# Altium footprint library PEI_PCB_1.1.PcbLib: 310 footprints (part 7 of 20)
Each footprint in its own frame and in the unit in brackets; x right, y up, seen from the top. Pads: shape width x height; smd on the part's side, far side on the other; paste and mask are expansions set on the pad; w line width, h text height; cw(c..) or ccw(c..) is an arc to the next point about the centre after c.
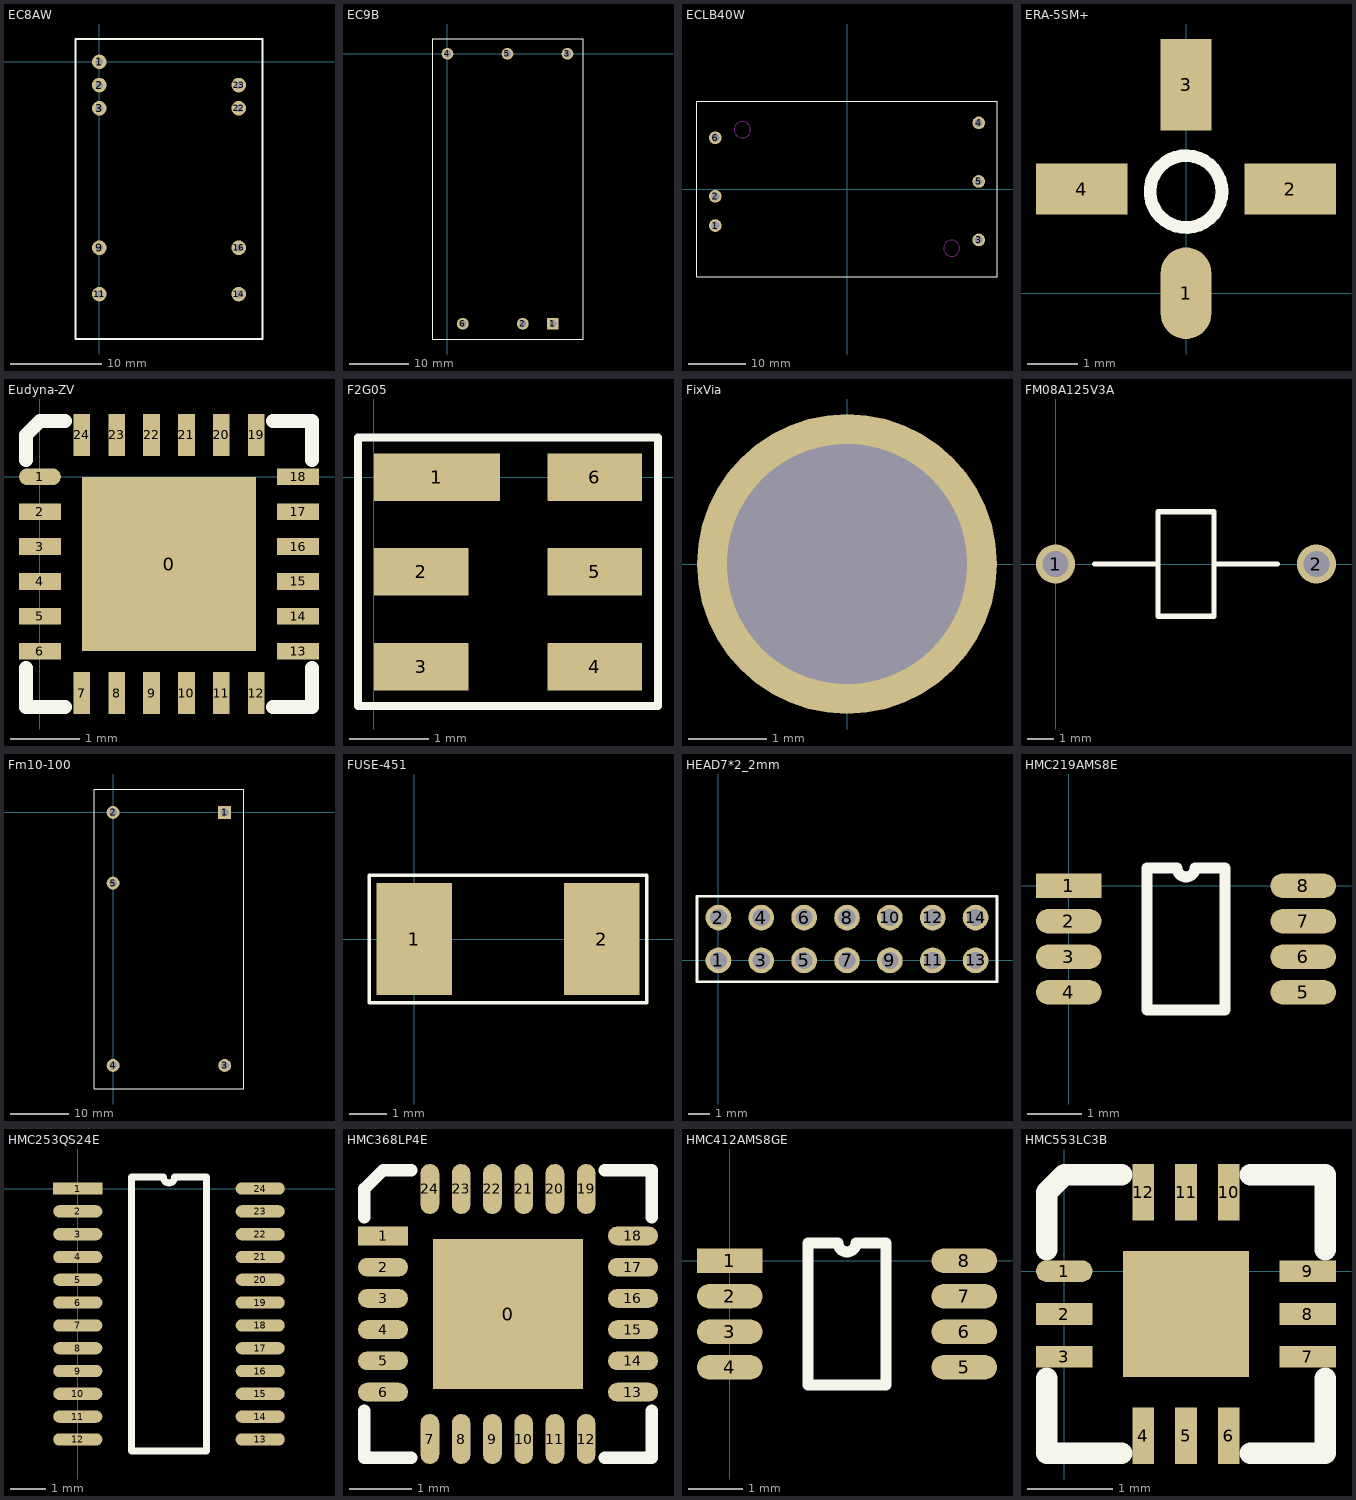
[diagram p6: the footprints below, top view; thin cyan lines are the x and y axes]

## EC8AW [mm]
pads (9):
  round 1.6 hole 0.8: 1(0,0) 2(0,-2.54) 3(0,-5.08) 9(0,-20.32) 11(0,-25.4) 14(15.24,-25.4) 16(15.24,-20.32) 22(15.24,-5.08) 23(15.24,-2.54)
TopOverlay:
  lines w0.2: 17.84,-30.302 17.84,2.5 -2.6,2.5 -2.6,-30.3 17.84,-30.3

## EC9B [mm]
pads (6):
  rect 2x2 hole 1.2: 1(17.84,-45.72)
  round 2 hole 1.2: 2(12.76,-45.72) 3(20.32,0) 4(0,0) 5(10.16,0) 6(2.6,-45.72)
TopOverlay:
  lines w0.2: -2.5,-48.3 23,-48.3 23,2.5 -2.5,2.5 -2.5,-48.3

## ECLB40W [mm]
pads (6):
  round 2.2 hole 1.4: 1(-22.86,-6.35) 2(-22.86,-1.27) 3(22.86,-8.839) 4(22.86,11.481) 5(22.86,1.321) 6(-22.86,8.89)
TopOverlay:
  lines w0.2: -26.035,-15.24 -26.035,15.24 26.035,15.24 26.035,-15.24 -26.035,-15.24
KeepOutLayer:
  circle w0.1: c18.161,-10.287 r1.4
  circle w0.1: c-18.161,10.287 r1.4

## ERA-5SM+ [mil]
pads (4):
  oval 40x72 smd: 1(0,0)
  rect 72x40 smd: 2(82,82) 4(-82,82)
  rect 40x72 smd: 3(0,164)
TopOverlay:
  circle w10: c0,80 r28.28

## Eudyna-ZV [mm]
pads (25):
  rect 2.5x2.5 smd: 0(1.85,-1.25)
  oval 0.6x0.24 smd: 1(0,0)
  rect 0.6x0.24 smd: 2(0,-0.5) 3(0,-1) 4(0,-1.5) 5(0,-2) 6(0,-2.5) 13(3.7,-2.5) 14(3.7,-2) 15(3.7,-1.5) 16(3.7,-1) 17(3.7,-0.5) 18(3.7,0)
  rect 0.24x0.6 smd: 7(0.6,-3.1) 8(1.1,-3.1) 9(1.6,-3.1) 10(2.1,-3.1) 11(2.6,-3.1) 12(3.1,-3.1) 19(3.1,0.6) 20(2.6,0.6) 21(2.1,0.6) 22(1.6,0.6) 23(1.1,0.6) 24(0.6,0.6)
TopOverlay:
  lines w0.2: -0.2,-2.74 -0.2,-3.3 0.36,-3.3 ; -0.2,0.24 -0.2,0.6 0,0.8 0.36,0.8 ; 3.34,-3.3 3.9,-3.3 3.9,-2.74 ; 3.34,0.8 3.9,0.8 3.9,0.24

## F2G05 [mm]
pads (6):
  rect 1.6x0.6 smd: 1(0.8,0)
  rect 1.2x0.6 smd: 2(0.6,-1.2) 3(0.6,-2.4) 4(2.8,-2.4) 5(2.8,-1.2) 6(2.8,0)
TopOverlay:
  lines w0.1: -0.2,-2.9 3.6,-2.9 3.6,0.5 -0.2,0.5 -0.2,-2.9

## FixVia [mil]
pads (1):
  round 150 hole 120: ""(0,0)

## FM08A125V3A [mm]
pads (2):
  round 1.5 hole 1: 1(0,0) 2(10,0)
TopOverlay:
  lines w0.2: 1.5,0 3.925,0 ; 8.5,0 6.075,0 ; 3.925,0 3.925,-2 6.075,-2 6.075,0 ; 3.925,0 3.925,2 6.075,2 6.075,0

## Fm10-100 [mm]
pads (5):
  rect 2.2x2.2 hole 1.4: 1(19.05,0)
  round 2.2 hole 1.4: 2(0,0) 3(19.05,-43.18) 4(0,-43.18) 5(0,-12.06)
TopOverlay:
  lines w0.2: -3.2,-47.2 22.3,-47.2 22.3,4 -3.2,4 -3.2,-47.2

## FUSE-451 [mm]
pads (2):
  rect 2x3 smd: 1(0,0) 2(5,0)
TopOverlay:
  lines w0.1: -1.2,-1.7 6.2,-1.7 6.2,1.7 -1.2,1.7 -1.2,-1.7

## HEAD7*2_2mm [mm]
pads (14):
  round 1.2 hole 0.8: 1(0,0) 2(0,2) 3(2,0) 4(2,2) 5(4,0) 6(4,2) 7(6,0) 8(6,2) 9(8,0) 10(8,2) 11(10,0) 12(10,2) 13(12,0) 14(12,2)
TopOverlay:
  lines w0.127: -1,-1 13,-1 13,3 -1,3 -1,-1

## HMC219AMS8E [mm]
pads (8):
  rect 1.2x0.45 smd: 1(0,0)
  oval 1.2x0.45 smd: 2(0,-0.65) 3(0,-1.3) 4(0,-1.95) 5(4.3,-1.95) 6(4.3,-1.3) 7(4.3,-0.65) 8(4.3,0)
TopOverlay:
  lines w0.2: 1.435,-2.275 1.435,0.325 1.987,0.325 ccw(c2.15,0.325) 2.313,0.325 2.865,0.325 2.865,-2.275 1.435,-2.275

## HMC253QS24E [mm]
pads (24):
  rect 1.4x0.35 smd: 1(0,0)
  oval 1.4x0.35 smd: 2(0,-0.65) 3(0,-1.3) 4(0,-1.95) 5(0,-2.6) 6(0,-3.25) 7(0,-3.9) 8(0,-4.55) 9(0,-5.2) 10(0,-5.85) 11(0,-6.5) 12(0,-7.15) 13(5.2,-7.15) 14(5.2,-6.5) 15(5.2,-5.85) 16(5.2,-5.2) 17(5.2,-4.55) 18(5.2,-3.9) 19(5.2,-3.25) 20(5.2,-2.6) 21(5.2,-1.95) 22(5.2,-1.3) 23(5.2,-0.65) 24(5.2,0)
TopOverlay:
  lines w0.2: 1.535,-7.475 1.535,0.325 2.438,0.325 ccw(c2.6,0.325) 2.763,0.325 3.665,0.325 3.665,-7.475 1.535,-7.475

## HMC368LP4E [mm]
pads (25):
  rect 2.4x2.4 smd: 0(-324.06,408.554)
  rect 0.8x0.3 smd: 1(-326.06,409.804)
  oval 0.8x0.3 smd: 2(-326.06,409.304) 3(-326.06,408.804) 4(-326.06,408.304) 5(-326.06,407.804) 6(-326.06,407.304) 13(-322.06,407.304) 14(-322.06,407.804) 15(-322.06,408.304) 16(-322.06,408.804) 17(-322.06,409.304) 18(-322.06,409.804)
  oval 0.3x0.8 smd: 7(-325.31,406.554) 8(-324.81,406.554) 9(-324.31,406.554) 10(-323.81,406.554) 11(-323.31,406.554) 12(-322.81,406.554) 19(-322.81,410.554) 20(-323.31,410.554) 21(-323.81,410.554) 22(-324.31,410.554) 23(-324.81,410.554) 24(-325.31,410.554)
TopOverlay:
  lines w0.2: -326.36,407.004 -326.36,406.254 -325.61,406.254 ; -326.36,410.104 -326.36,410.554 -326.06,410.854 -325.61,410.854 ; -322.51,406.254 -321.76,406.254 -321.76,407.004 ; -322.51,410.854 -321.76,410.854 -321.76,410.104

## HMC412AMS8GE [mm]
pads (8):
  rect 1.2x0.45 smd: 1(0,0)
  oval 1.2x0.45 smd: 2(0,-0.65) 3(0,-1.3) 4(0,-1.95) 5(4.3,-1.95) 6(4.3,-1.3) 7(4.3,-0.65) 8(4.3,0)
TopOverlay:
  lines w0.2: 1.435,-2.275 2.865,-2.275 2.865,0.325 2.312,0.325 cw(c2.15,0.325) 1.987,0.325 1.435,0.325 1.435,-2.275

## HMC553LC3B [mil]
pads (13):
  oval 26x10 smd: 1(0,0)
  rect 26x10 smd: 2(0,-19.7) 3(0,-39.4) 7(112,-39.4) 8(112,-19.7) 9(112,0)
  rect 10x26 smd: 4(36.3,-75.7) 5(56,-75.7) 6(75.7,-75.7) 10(75.7,36.3) 11(56,36.3) 12(36.3,36.3)
  rect 58x58 smd: ""(56,-19.7)
TopOverlay:
  lines w10: -8,-49.4 -8,-83.7 26.3,-83.7 ; -8,10 -8,36.3 0,44.3 26.3,44.3 ; 85.7,-83.7 120,-83.7 120,-49.4 ; 85.7,44.3 120,44.3 120,10